# Altium schematic symbol library capacitors.SchLib: 2 symbols
Pins are listed as number, name and electrical type; pins without a type are passive.

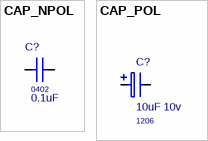
[diagram p0: symbols CAP_NPOL to CAP_POL]

## CAP_NPOL
designator C?, comment 0.1uF  PackageReference: 0402
CAP_NPOL; Value: CAP_NPOL
footprint C0805
footprint C1206
footprint C1210
footprint C1812
footprint C1825
footprint C2220
footprint C2225
footprint W2H05 (Width 2mm, between holes 5mm)
footprint C0603
footprint WIMA-7.2x6x4.5-5.0 (Width 7.2mm, between holes 5mm)
footprint WIMA-7.2x7x5.5-5.0 (Width 7.2mm, between holes 5mm)
footprint WIMA-10x9x4-7.5 (Width 10mm, between holes 7.5mm)
footprint WIMA-7.2x8x6.5-5.0 (Width 7.2mm, between holes 5mm)
footprint WIMA-31.5x29x17-27.5 (Width 31.5mm, between holes 27.5mm)
footprint WIMA-7.2x8.5x3.5-5.0 (Width 7.2mm, between holes 5mm)
footprint C0402 (Chip Capacitor, 2-Leads, Body 1.00x0.50mm, IPC Medium Density)
footprint TH-AX-W15R7 (Axial capacitor with body diameter 7mm length 15mm)
footprint TH-AX-W20R6 (Axial capacitor with body diameter 6.5mm length 20mm)
footprint WIMA-7.2x16x11-5.0 (Width 7.2mm, between holes 5mm)
pins: 1, 2

## CAP_POL
designator C?, comment 10uF 10v  PackageReference: 1206
CAP_POL; Value: CAP_POL
footprint ALUM_5
footprint ALUM_6.3
footprint ALUM_8
footprint ALUM_10
footprint ALUM_12
footprint ALUM_16
footprint TANTAL-A-1206
footprint TANTAL-B-1411
footprint TANTAL-C-2412
footprint TANTAL-D-2916
footprint TANTAL-E-2917
footprint R08H04 (Radius 8mm, between holes 4mm)
footprint ALUM_3.3
footprint R05H11 (Radius 5mm, between holes 2.54mm)
footprint R06H11 (Radius 6.3mm, between holes 2.5mm)
footprint R08H04 (Radius 8mm, between holes 4mm)
footprint R16H07 (Radius 16mm, between holes 7.5mm)
footprint ALUM_4
footprint R12H05 (Radius 12mm, between holes 5mm)
footprint R10H05 (Radius 10mm, between holes 5mm)
footprint R04H7 (Radius 4mm, between holes 1.5mm)
footprint DS/DSK (Coin Cell Capacitors)
pins: 1 +, 2 -